# Altium schematic symbol library THS4131.SchLib: 1 symbol
Pins are listed as number, name and electrical type; pins without a type are passive.

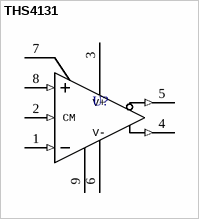
[diagram p0: symbol THS4131]

## THS4131
designator U?, comment THS4131CDGN  (value not drawn)
Fully Differential Input/Output Low Noise Amplifier; PartNumber: THS4131CDGNR; Manufacturer: Texas Instruments; CompType: IC; PIN_COUNT: 9; Alternate_PartNumber: THS4131CDGN; PackageReference: DGN0008D; MountType: SMT; RoHS: Y; RefDes: RefDes; Type: DEV; Value: Value; Copyright: Copyright (C) 2018 Accelerated Designs. All rights reserved; ComponentLink1Description: Product Page; ComponentLink1URL: https://www.ti.com/product/THS4131
footprint DGN0008D_N
pins: 1 VIN- (in), 2 VOCM (in), 3 VCC+ (power), 4 VOUT+ (out), 5 VOUT- (out), 6 VCC- (power), 7 NC, 8 VIN+ (in), 9 PAD (power)
text: V+; CM; V-